# Altium footprint library 海关全向控制器主控板电路V3.PcbLib: 35 footprints (part 2 of 3)
Each footprint in its own frame and in the unit in brackets; x right, y up, seen from the top. Pads: shape width x height; smd on the part's side, far side on the other; paste and mask are expansions set on the pad; w line width, h text height; cw(c..) or ccw(c..) is an arc to the next point about the centre after c.
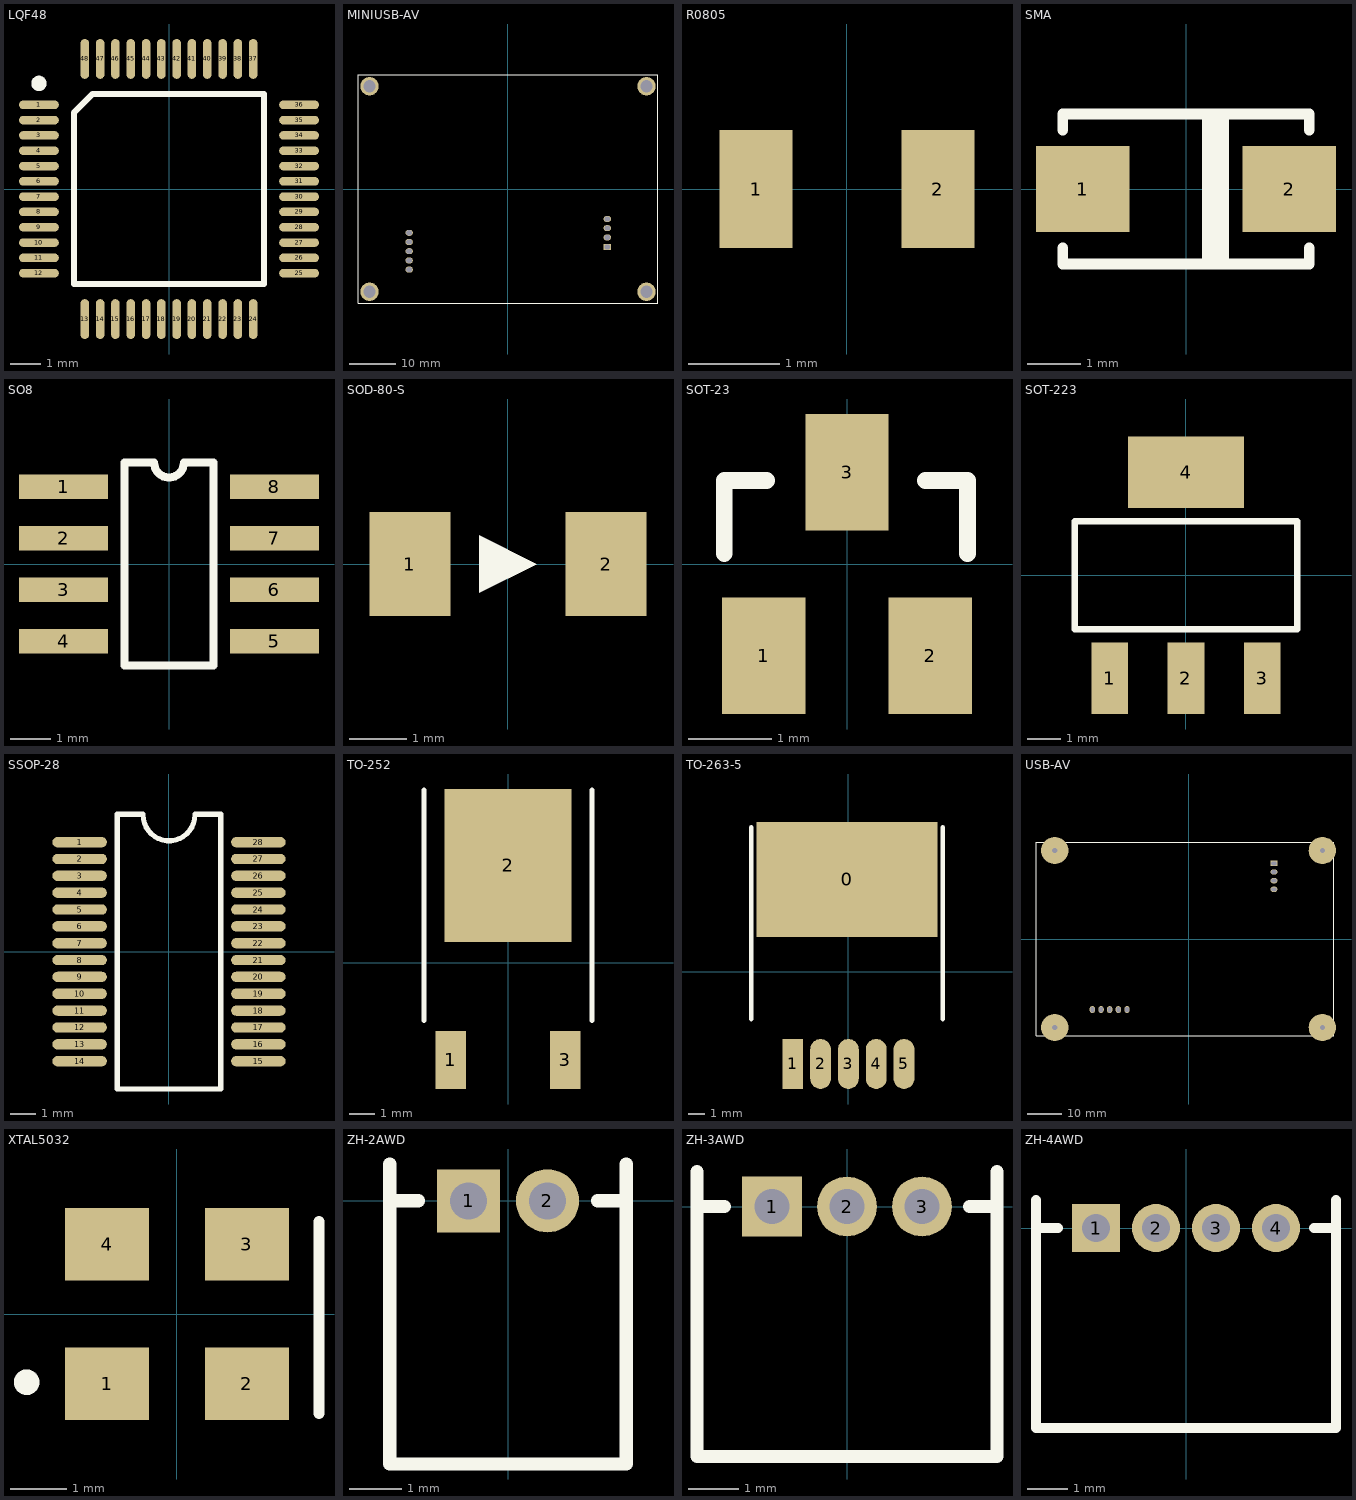
[diagram p1: the footprints below, top view; thin cyan lines are the x and y axes]

## LQF48 [mm]
height 1.6
pads (48):
  oval 1.3x0.28 smd: 1(-4.25,2.75) 2(-4.25,2.25) 3(-4.25,1.75) 4(-4.25,1.25) 5(-4.25,0.75) 6(-4.25,0.25) 7(-4.25,-0.25) 8(-4.25,-0.75) 9(-4.25,-1.25) 10(-4.25,-1.75) 11(-4.25,-2.25) 12(-4.25,-2.75) 25(4.25,-2.75) 26(4.25,-2.25) 27(4.25,-1.75) 28(4.25,-1.25) 29(4.25,-0.75) 30(4.25,-0.25) 31(4.25,0.25) 32(4.25,0.75) 33(4.25,1.25) 34(4.25,1.75) 35(4.25,2.25) 36(4.25,2.75)
  oval 0.28x1.3 smd: 13(-2.75,-4.25) 14(-2.25,-4.25) 15(-1.75,-4.25) 16(-1.25,-4.25) 17(-0.75,-4.25) 18(-0.25,-4.25) 19(0.25,-4.25) 20(0.75,-4.25) 21(1.25,-4.25) 22(1.75,-4.25) 23(2.25,-4.25) 24(2.75,-4.25) 37(2.75,4.25) 38(2.25,4.25) 39(1.75,4.25) 40(1.25,4.25) 41(0.75,4.25) 42(0.25,4.25) 43(-0.25,4.25) 44(-0.75,4.25) 45(-1.25,4.25) 46(-1.75,4.25) 47(-2.25,4.25) 48(-2.75,4.25)
Top Overlay:
  circle w0.25: c-4.25,3.45 r0.125
  lines w0.203: -3.1,-3.1 -3.1,2.5 -2.5,3.1 3.1,3.1 3.1,-3.1 -3.1,-3.1
3D body: height 1.8, standoff -0.01, extent -4.495,-4.5 4.505,4.5

## MINIUSB-AV [mm]
height 3
pads (13):
  rect 1.6x1.3 hole 1 slot 1.2 at 0 deg: 1(21.55,-12.6)
  oval 1.6x1.3 hole 1 slot 1.2 at 0 deg: 2(21.55,-10.5) 3(21.55,-8.5) 4(21.55,-6.5) 5(-21.45,-17.5) 6(-21.45,-15.5) 7(-21.45,-13.5) 8(-21.45,-11.5) 9(-21.45,-9.5)
  round 4 hole 2.7: ""(-30.05,-22.3) ""(-30.05,22.3) ""(30.05,-22.3) ""(30.05,22.3)
Top Overlay:
  lines w0.152: -32.55,-24.8 -32.55,24.8 32.55,24.8 32.55,-24.8 -32.55,-24.8

## R0805 [mm]
height 0.55
pads (2):
  rect 0.8x1.3 smd: 1(-1,0) 2(1,0)
3D body: height 0.47, standoff 0, extent -1,-0.626 1,0.626

## SMA [mm]
height 2.2
pads (2):
  rect 1.75x1.6 smd: 1(-1.925,0) 2(1.925,0)
Top Overlay:
  rectangle: 0.3,-1.5 0.806,1.5
  lines w0.203: -2.3,-1.1 -2.3,-1.4 2.3,-1.4 2.3,-1.1 ; -2.3,1.1 -2.3,1.4 2.3,1.4 2.3,1.1
3D body: height 2.15, standoff 0, extent -2.6,-1.325 2.6,1.325

## SO8 [mm]
height 1.55
pads (8):
  rect 2.2x0.6 smd: 1(-2.6,1.905) 2(-2.6,0.635) 3(-2.6,-0.635) 4(-2.6,-1.905) 5(2.6,-1.905) 6(2.6,-0.635) 7(2.6,0.635) 8(2.6,1.905)
Top Overlay:
  lines w0.2: -1.1,-2.5 1.1,-2.5 1.1,2.5 0.367,2.5 cw(c0,2.5) -0.367,2.5 -1.1,2.5 -1.1,-2.5
3D body: height 1.4, standoff -0.05, extent -2.972,-2.464 2.972,2.438

## SOD-80-S [mm]
height 6
pads (2):
  rect 1.4x1.8 smd: 1(-1.7,0) 2(1.7,0)
Top Overlay:
  region: -0.5,0.5 -0.5,-0.5 0.5,0
3D body: height 1.6, standoff 0, extent -1.85,-0.787 1.85,0.813

## SOT-23 [mm]
height 6
pads (3):
  rect 1x1.4 smd: 1(-1,-1.1) 2(1,-1.1) 3(0,1.1)
Top Overlay:
  lines w0.203: -1.473,0.127 -1.473,1 -0.965,1 ; 0.94,1 1.448,1 1.448,0.127
3D body: height 1.3, standoff 0, extent -1.45,-1.4 1.45,1.4

## SOT-223 [mm]
height 1.8
pads (4):
  rect 1.1x2.15 smd: 1(-2.3,-3.1) 2(0,-3.1) 3(2.3,-3.1)
  rect 3.5x2.15 smd: 4(0,3.1)
Top Overlay:
  lines w0.2: -3.35,-1.625 3.35,-1.625 3.35,1.625 -3.35,1.625 -3.35,-1.625
3D body: height 1.8, standoff 0, extent -3.15,-3.3 3.15,3.3

## SSOP-28 [mm]
height 6
pads (28):
  oval 2.1x0.4 smd: 1(-3.45,4.225) 2(-3.45,3.575) 3(-3.45,2.925) 4(-3.45,2.275) 5(-3.45,1.625) 6(-3.45,0.975) 7(-3.45,0.325) 8(-3.45,-0.325) 9(-3.45,-0.975) 10(-3.45,-1.625) 11(-3.45,-2.275) 12(-3.45,-2.925) 13(-3.45,-3.575) 14(-3.45,-4.225) 15(3.45,-4.225) 16(3.45,-3.575) 17(3.45,-2.925) 18(3.45,-2.275) 19(3.45,-1.625) 20(3.45,-0.975) 21(3.45,-0.325) 22(3.45,0.325) 23(3.45,0.975) 24(3.45,1.625) 25(3.45,2.275) 26(3.45,2.925) 27(3.45,3.575) 28(3.45,4.225)
Top Overlay:
  lines w0.2: -1,5.275 ccw(c0,5.275) 1,5.275 ; -1,5.3 -2,5.3 -2,-5.3 2,-5.3 2,5.3 1,5.3
3D body: height 2.15, standoff 0, extent -3.878,-5.165 3.878,5.165

## TO-252 [mm]
height 2.4
pads (3):
  rect 1.2x2.28 smd: 1(-2.25,-3.816) 3(2.25,-3.816)
  rect 5x6 smd: 2(0,3.816)
Top Overlay:
  lines w0.203: -3.3,-2.274 -3.3,6.776 ; 3.3,-2.274 3.3,6.776
3D body: height 2.3, standoff 0, extent -3.25,-3.62 3.25,5.68

## TO-263-5 [mil]
height 236.22
pads (6):
  rect 433.07x275.59 smd: 0(-3.33,221.44)
  rect 50x120 smd: 1(-133.33,-221.44)
  oval 50x120 smd: 2(-66.67,-221.44) 3(0,-221.44) 4(66.67,-221.44) 5(133.33,-221.44)
Top Overlay:
  lines w11: -233.33,-113.56 -233.33,346.44 ; 226.67,-113.56 226.67,346.44
3D body: height 177.17, standoff 0, extent -204.26,-257.93 206.67,320.81

## USB-AV [mm]
height 9.5
pads (13):
  rect 2x1.6 hole 1 slot 1.5 at 0 deg: 1(25.05,22.2)
  oval 2x1.6 hole 1 slot 1.5 at 0 deg: 2(25.05,19.66) 3(25.05,17.12) 4(25.05,14.58)
  oval 1.6x2 hole 1 slot 1.5 at 90 deg: 5(-18.054,-20.701) 6(-20.594,-20.701) 7(-23.134,-20.701) 8(-25.674,-20.701) 9(-28.214,-20.701)
  round 8 hole 1.5: ""(-39.25,-25.95) ""(-39.25,25.95) ""(39.25,-25.95) ""(39.25,25.95)
Top Overlay:
  lines w0.152: -44.75,-28.45 42.65,-28.45 42.65,28.45 -44.75,28.45 -44.75,-28.45
3D body: height 5, standoff -6, extent -44.826,-28.374 42.574,28.526

## XTAL5032 [mm]
height 1
pads (4):
  rect 1.5x1.3 smd: 1(-1.25,-1.25) 2(1.25,-1.25) 3(1.25,1.25) 4(-1.25,1.25)
Top Overlay:
  circle w0.203: c-2.688,-1.22 r0.127
  region: -2.688,-1.083 -2.591,-1.123 -2.551,-1.22 -2.591,-1.317 -2.688,-1.357 -2.785,-1.317 -2.825,-1.22 -2.785,-1.123
  lines w0.203: 2.54,-1.778 2.54,1.651
3D body: height 1.2, standoff 0, extent -2.5,-1.6 2.5,1.6

## ZH-2AWD [mm] "1.5mm，2P，卧插"
height 3.9
pads (2):
  rect 1.2x1.2 hole 0.7: 1(-0.75,0)
  round 1.2 hole 0.7: 2(0.75,0)
Top Overlay:
  lines w0.254: -2.25,0 -1.7,0 ; -2.25,0.7 -2.25,-5 2.25,-5 2.25,0.7 ; 1.7,0 2.25,0
3D body: height 3.95, standoff -2.85, extent -2.25,-5.05 2.25,0.65

## ZH-3AWD [mm] "1.5mm，3P，卧插"
height 3.9
pads (3):
  rect 1.2x1.2 hole 0.7: 1(-1.5,0)
  round 1.2 hole 0.7: 2(0,0) 3(1.5,0)
Top Overlay:
  lines w0.254: -3,0 -2.45,0 ; -3,0.7 -3,-5 3,-5 3,0.7 ; 2.45,0 3,0
3D body: height 3.95, standoff -2.85, extent -3,-5.05 3,0.65

## ZH-4AWD [mm] "1.5mm，4P，卧插"
height 3.9
pads (4):
  rect 1.2x1.2 hole 0.7: 1(-2.25,0)
  round 1.2 hole 0.7: 2(-0.75,0) 3(0.75,0) 4(2.25,0)
Top Overlay:
  lines w0.254: -3.75,0 -3.2,0 ; -3.75,0.7 -3.75,-5 3.75,-5 3.75,0.7 ; 3.2,0 3.75,0
3D body: height 3.95, standoff -2.85, extent -3.75,-5.05 3.75,0.65